# Altium schematic symbol library Maxim Integrated.SchLib: 6 symbols
Pins are listed as number, name and electrical type; pins without a type are passive.

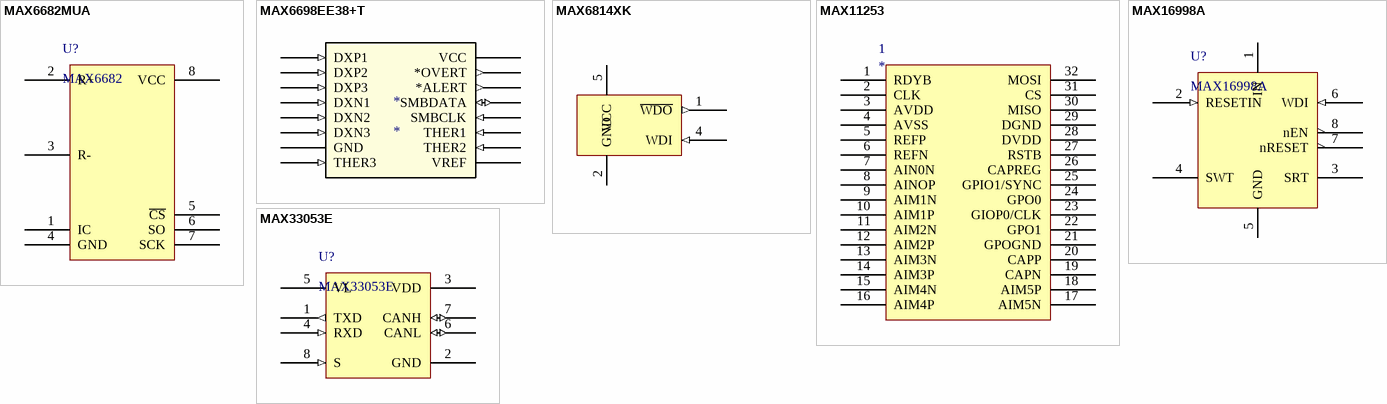
[diagram p0: symbols MAX6682MUA to MAX33053E]

## MAX6682MUA
designator U?, comment MAX6682
Supplier 1: Mouser; Supplier 2: Digi-Key; Supplier Part Number 1: 700-MAX6682MUA; Supplier Part Number 2: MAX6682MUA+-ND
pins: 1 IC, 2 R+, 3 R-, 4 GND, 5 ~{CS}, 6 SO, 7 SCK, 8 VCC

## MAX6698EE38+T
designator *
pins: 1 DXP1 (in), 2 DXN1 (in), 3 DXP2 (in), 4 DXN2 (in), 5 DXP3 (in), 6 DXN3 (in), 7 THER3 (in), 8 VREF (power), 9 THER2 (in), 10 THER1 (in), 11 *OVERT (out), 12 VCC (power), 13 *ALERT (out), 14 SMBDATA (io), 15 SMBCLK (in), 16 GND (power)

## MAX6814XK
designator U?, comment MAX6814
pins: 1 ~{WDO} (out), 2 GND (power), 3 NC hidden to 3V3, 4 WDI (in), 5 VCC (power)

## MAX11253
designator 1
pins: 1 RDYB, 2 CLK, 3 AVDD, 4 AVSS, 5 REFP, 6 REFN, 7 AIN0N, 8 AINOP, 9 AIM1N, 10 AIM1P, 11 AIM2N, 12 AIM2P, 13 AIM3N, 14 AIM3P, 15 AIM4N, 16 AIM4P, 17 AIM5N, 18 AIM5P, 19 CAPN, 20 CAPP, 21 GPOGND, 22 GPO1, 23 GIOP0/CLK, 24 GPO0, 25 GPIO1/SYNC, 26 CAPREG, 27 RSTB, 28 DVDD, 29 DGND, 30 MISO, 31 CS, 32 MOSI

## MAX16998A
designator U?
pins: 1 IN, 2 RESETIN (in), 3 SRT, 4 SWT, 5 GND, 6 WDI (in), 7 nRESET (oc), 8 nEN (oc)

## MAX33053E
designator U?
pins: 1 TXD (out), 2 GND (power), 3 VDD (power), 4 RXD (in), 5 VL (power), 6 CANL (io), 7 CANH (io), 8 S (in)